# EAGLE library part 2908-05WB-MG (library ubo_PQ60)
2908-05WB-MG Conn Micro S D Card HDR 8 POS 1.1mm So lder RA SMD T/R 0.5A RoHS
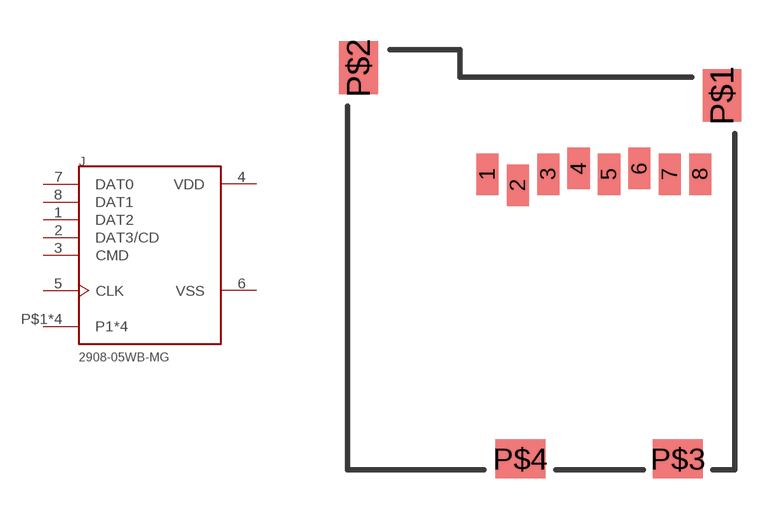
[diagram p34: symbol with the pads of 3M_2908-05WB-MG; footprint 3M_2908-05WB-MG]

Designator prefix J

## 2908-05WB-MG (DESCRIPTION: 2908-05WB-MG Conn Micro S D Card HDR 8 POS 1.1mm So lder RA SMD T/R 0.5A RoHS; DIGI-KEY_PART_NUMBER: 3M5607CT-ND; DIGI-KEY_PURCHASE_URL: https://www.digikey.com/product-detail/en/3m/2908-05WB-MG/3M5607CT-ND/1242498?utm_source=snapeda&utm_medium=aggregator&utm_campaign=symbol; MF: 3M; MP: 2908-05WB-MG; PACKAGE: None)  [3M_2908-05WB-MG]
1  DAT2
2  DAT3/CD
3  CMD
4  VDD  pwr
5  CLK
6  VSS  pwr
7  DAT0
8  DAT1
P$1  P1*4
P$2  P1*4
P$3  P1*4
P$4  P1*4

## Footprint 3M_2908-05WB-MG (pad centres in mm)
smd 0.8 x 1.5: 1 -1.94,3.1; 2 -0.84,2.7; 3 0.26,3.1; 4 1.36,3.3; 5 2.46,3.1; 6 3.56,3.3; 7 4.66,3.1; 8 5.76,3.1
smd 1.4 x 1.9: P$1 6.55,5.95; P$2 -6.6,6.95
smd 1.8 x 1.4: P$3 4.95,-7.2; P$4 -0.75,-7.2